# Altium schematic symbol library CONN-3-PIN.SchLib: 1 symbol
Pins are listed as number, name and electrical type; pins without a type are passive.

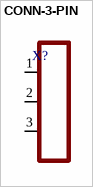
[diagram p0: symbol CONN-3-PIN]

## CONN-3-PIN
designator X?
footprint 691305340003
pins: 1, 2, 3